# EAGLE library part IMU (library BlueShift)
adafruit.com/product/2472 github.com/adafruit/Adafruit-BNO055-Breakout-PCB
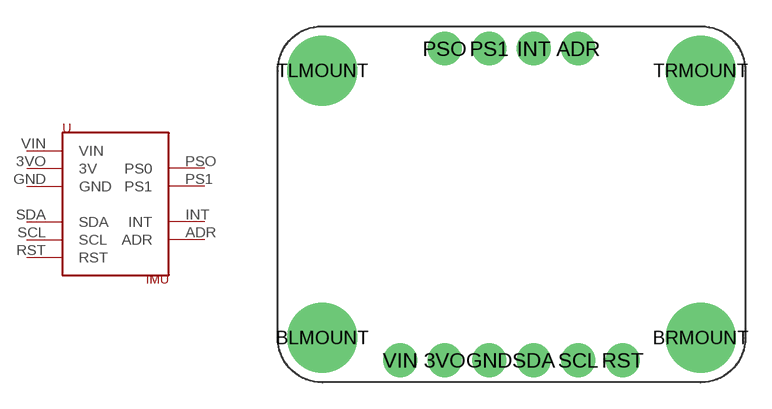
[diagram p2: symbol with the pads of IMU; footprint IMU]

Designator prefix -

## IMU  [IMU]
3VO  3V
ADR  ADR
GND  GND
INT  INT
PS1  PS1
PSO  PS0
RST  RST
SCL  SCL
SDA  SDA
VIN  VIN

## Footprint IMU (pad centres in mm)
drill 1 pad 1.93: 3VO 9.525,1.27; ADR 17.145,19.05; GND 12.065,1.27; INT 14.605,19.05; PS1 12.065,19.05; PSO 9.525,19.05; RST 19.685,1.27; SCL 17.145,1.27; SDA 14.605,1.27; VIN 6.985,1.27
drill 2.5 pad 4: BLMOUNT 2.54,2.54; BRMOUNT 24.13,2.54; TLMOUNT 2.54,17.78; TRMOUNT 24.13,17.78